# Altium schematic symbol library TC2030.SchLib: 1 symbol
Pins are listed as number, name and electrical type; pins without a type are passive.

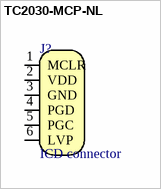
[diagram p0: symbol TC2030-MCP-NL]

## TC2030-MCP-NL
designator J?, comment ICD connector  (no BOM)
Conector par ICD
footprint TC2030-MCP-NL (Conector ICD en placa)
footprint TC2030-MCP (Conector ICD en placa)
pins: 1 MCLR, 2 VDD, 3 GND, 4 PGD, 5 PGC, 6 LVP